# Altium footprint library NNLightSwitcher.PcbLib: 50 footprints (part 1 of 4)
Each footprint in its own frame and in the unit in brackets; x right, y up, seen from the top. Pads: shape width x height; smd on the part's side, far side on the other; paste and mask are expansions set on the pad; w line width, h text height; cw(c..) or ccw(c..) is an arc to the next point about the centre after c.
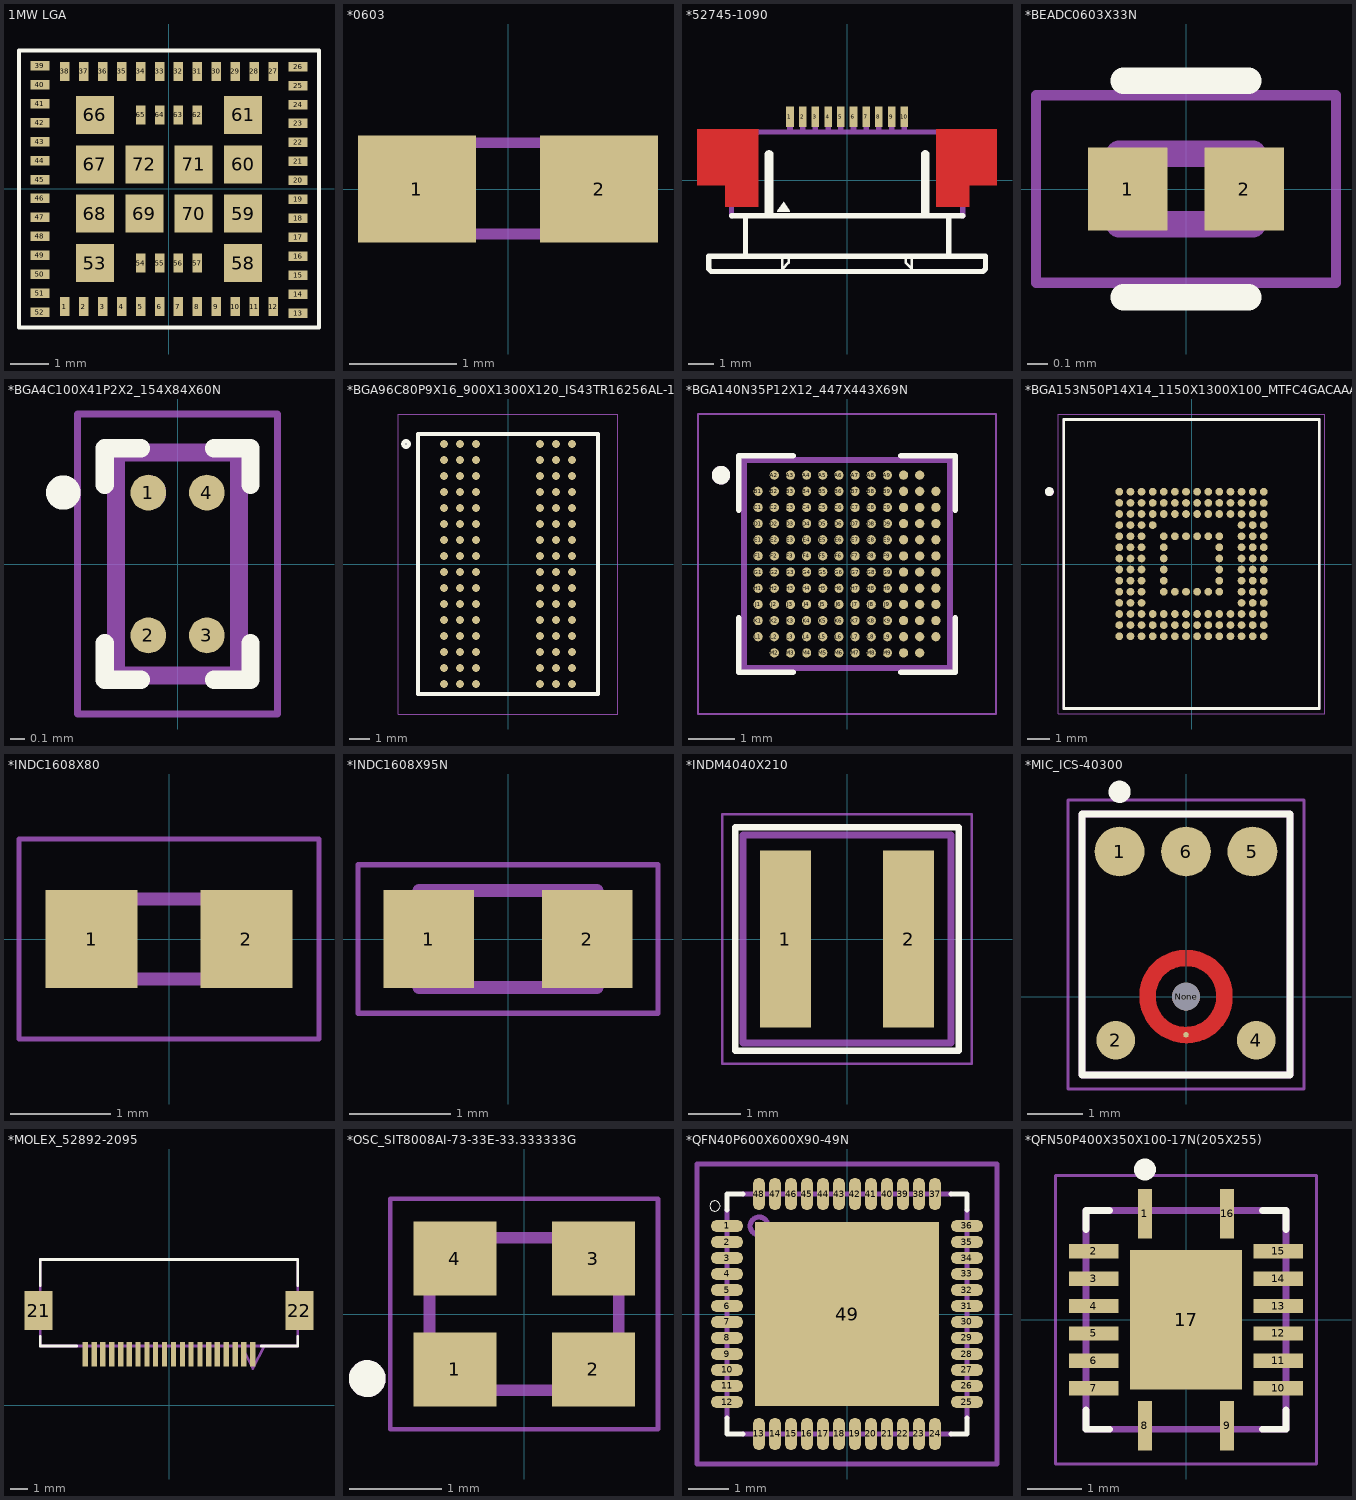
[diagram p0: the footprints below, top view; thin cyan lines are the x and y axes]

## 1MW LGA [mm]
height 1
pads (72):
  rect 0.25x0.5 smd: 1(-2.75,-3.1) 2(-2.25,-3.1) 3(-1.75,-3.1) 4(-1.25,-3.1) 5(-0.75,-3.1) 6(-0.25,-3.1) 7(0.25,-3.1) 8(0.75,-3.1) 9(1.25,-3.1) 10(1.75,-3.1) 11(2.25,-3.1) 12(2.75,-3.1) 27(2.75,3.1) 28(2.25,3.1) 29(1.75,3.1) 30(1.25,3.1) 31(0.75,3.1) 32(0.25,3.1) 33(-0.25,3.1) 34(-0.75,3.1) 35(-1.25,3.1) 36(-1.75,3.1) 37(-2.25,3.1) 38(-2.75,3.1) 54(-0.75,-1.95) 55(-0.25,-1.95) 56(0.25,-1.95) 57(0.75,-1.95) 62(0.75,1.95) 63(0.25,1.95) 64(-0.25,1.95) 65(-0.75,1.95)
  rect 0.5x0.25 smd: 13(3.4,-3.275) 14(3.4,-2.775) 15(3.4,-2.275) 16(3.4,-1.775) 17(3.4,-1.275) 18(3.4,-0.775) 19(3.4,-0.275) 20(3.4,0.225) 21(3.4,0.725) 22(3.4,1.225) 23(3.4,1.725) 24(3.4,2.225) 25(3.4,2.725) 26(3.4,3.225) 39(-3.4,3.25) 40(-3.4,2.75) 41(-3.4,2.25) 42(-3.4,1.75) 43(-3.4,1.25) 44(-3.4,0.75) 45(-3.4,0.25) 46(-3.4,-0.25) 47(-3.4,-0.75) 48(-3.4,-1.25) 49(-3.4,-1.75) 50(-3.4,-2.25) 51(-3.4,-2.75) 52(-3.4,-3.25)
  rect 1x1 smd: 53(-1.95,-1.95) 58(1.95,-1.95) 59(1.95,-0.65) 60(1.95,0.65) 61(1.95,1.95) 66(-1.95,1.95) 67(-1.95,0.65) 68(-1.95,-0.65) 69(-0.65,-0.65) 70(0.65,-0.65) 71(0.65,0.65) 72(-0.65,0.65)
Top Overlay:
  lines w0.1: -3.95,-3.65 -3.95,3.65 3.95,3.65 3.95,-3.65 -3.95,-3.65
3D body: height 1, standoff 0, extent -3.85,-3.575 3.85,3.575
3D body: height 0.25, standoff 0, extent -3.95,-3.65 3.95,3.65

## *0603 [mm]
pads (2):
  rect 1.1x1 smd: 1(-0.85,0) 2(0.85,0)
Mechanical 4:
  region: 0.331,0.48 0.83,0.48 0.83,-0.471 0.331,-0.471
  region: -0.84,0.48 -0.338,0.48 -0.338,-0.471 -0.84,-0.471
  region: 0.331,0.48 0.83,0.48 0.83,-0.471 0.331,-0.471
  region: -0.84,0.48 -0.338,0.48 -0.338,-0.471 -0.84,-0.471
  lines w0.102: -0.356,-0.419 0.356,-0.419 -0.356,-0.419 ; -0.356,0.432 0.356,0.432 -0.356,0.432
3D body "44211.stp": height 0.9, standoff 0.1, extent -0.8,-0.4 0.8,0.4

## *52745-1090 [mm]
pads (10):
  rect 0.3x0.8 smd: 1(-2.25,2.5) 2(-1.75,2.5) 3(-1.25,2.5) 4(-0.75,2.5) 5(-0.25,2.5) 6(0.25,2.5) 7(0.75,2.5) 8(1.25,2.5) 9(1.75,2.5) 10(2.25,2.5)
Top Layer:
  region: -5.91,2 -3.5,2 -3.5,-0.2 -5.91,-0.2
  region: -4.802,-0.2 -3.5,-0.2 -3.5,-1.05 -4.802,-1.05
  region: 3.506,-0.2 4.8,-0.2 4.8,-1.052 3.506,-1.052
  region: 3.503,2 5.9,2 5.9,-0.2 3.503,-0.2
Top Overlay:
  region: -2.75,-1.25 -2.75,-1.2 -2.5,-0.85 -2.25,-1.2 -2.25,-1.25
  lines w0.102: -2.55,-3.1 -2.55,-3.5 -2.3,-3.25 -2.3,-3.1 ; 2.3,-3.1 2.3,-3.25 2.55,-3.5 2.55,-3.1
  lines w0.203: -4.55,-1.4 4.55,-1.4 ; -4,-2.9 -4,-1.5 ; -3.15,-1.25 -3.15,1 cw(c-3.075,1) -3,1 -3,-1.25 ; 3,-1.25 3,1 cw(c3.075,1) 3.15,1 3.15,-1.25 ; 4,-2.9 4,-1.5 ; -5.45,-3.5 -5.45,-3 5.45,-3 5.45,-3.5 5.35,-3.6 -5.35,-3.6 -5.45,-3.5
Top Paste:
  region: 5.7,-0.05 3.705,-0.05 3.705,1.85 5.7,1.85
  region: -5.701,1.85 -3.7,1.85 -3.7,-0.05 -5.701,-0.05
Top Solder:
  region: 5.9,-0.2 4.754,-0.2 4.754,2 5.9,2
  region: 4.8,-1.051 3.505,-1.051 3.505,2 4.8,2
  region: -5.908,2 -4.75,2 -4.75,-0.2 -5.908,-0.2
  region: -4.803,2 -3.5,2 -3.5,-1.051 -4.803,-1.051
Mechanical 4:
  region: -2.352,2.7 -2.15,2.7 -2.15,2.002 -2.352,2.002
  region: -1.85,2.7 -1.65,2.7 -1.65,2 -1.85,2
  region: -1.351,2.7 -1.15,2.7 -1.15,2.002 -1.351,2.002
  region: -0.851,2.7 -0.65,2.7 -0.65,2.002 -0.851,2.002
  region: -0.35,2.7 -0.15,2.7 -0.15,2.002 -0.35,2.002
  region: 0.15,2.7 0.35,2.7 0.35,2 0.15,2
  region: 0.65,2.7 0.85,2.7 0.85,2.001 0.65,2.001
  region: 1.152,2.7 1.35,2.7 1.35,2.004 1.152,2.004
  region: 1.653,2.7 1.85,2.7 1.85,2.004 1.653,2.004
  region: 2.154,2.7 2.35,2.7 2.35,2.003 2.154,2.003
  region: -2.352,2.7 -2.15,2.7 -2.15,2.002 -2.352,2.002
  region: -1.85,2.7 -1.65,2.7 -1.65,2 -1.85,2
  region: -1.351,2.7 -1.15,2.7 -1.15,2.002 -1.351,2.002
  region: -0.851,2.7 -0.65,2.7 -0.65,2.002 -0.851,2.002
  region: -0.35,2.7 -0.15,2.7 -0.15,2.002 -0.35,2.002
  region: 0.15,2.7 0.35,2.7 0.35,2 0.15,2
  region: 0.65,2.7 0.85,2.7 0.85,2.001 0.65,2.001
  region: 1.152,2.7 1.35,2.7 1.35,2.004 1.152,2.004
  region: 1.653,2.7 1.85,2.7 1.85,2.004 1.653,2.004
  region: 2.154,2.7 2.35,2.7 2.35,2.003 2.154,2.003
  lines w0.102: -5.45,0.7 -5.45,0.9 ; -5.45,0.7 -4.7,0.7 ; -5.45,0.7 -5.45,0.9 ; -5.45,0.7 -4.7,0.7 ; -5.45,0.9 -4.9,0.9 ; -5.45,0.9 -4.9,0.9 ; -5.45,1.45 -5.45,1.65 ; -5.45,1.45 -4.85,1.45 ; -5.45,1.45 -5.45,1.65 ; -5.45,1.45 -4.85,1.45 ; -5.45,1.65 -4.85,1.65 ; -5.45,1.65 -4.85,1.65 ; -4.9,0.9 -4.85,0.95 ; -4.9,0.9 -4.85,0.95 ; -4.85,0.95 -4.85,1.45 ; -4.85,0.95 -4.85,1.45 ; -4.85,1.65 -4.85,1.95 ; -4.85,1.65 -4.85,1.95 ; -4.85,1.95 -4.7,1.95 -4.85,1.95 ; -4.7,0.7 -4.7,1.9 -4.7,0.7 ; 4.7,0.7 5.45,0.7 ; 4.7,0.7 4.7,1.9 4.7,0.7 ; 4.7,0.7 5.45,0.7 ; 4.85,0.95 4.85,1.45 ; 4.85,0.95 4.9,0.9 ; 4.85,0.95 4.85,1.45 ; 4.85,0.95 4.9,0.9 ; 4.85,1.45 5.45,1.45 ; 4.85,1.45 5.45,1.45 ; 4.85,1.65 4.85,1.95 ; 4.85,1.65 5.45,1.65 ; 4.85,1.65 4.85,1.95 ; 4.85,1.65 5.45,1.65 ; 4.85,1.95 4.7,1.95 4.85,1.95 ; 4.9,0.9 5.45,0.9 ; 4.9,0.9 5.45,0.9 ; 5.45,0.7 5.45,0.9 ; 5.45,0.7 5.45,0.9 ; 5.45,1.45 5.45,1.65 ; 5.45,1.45 5.45,1.65
  lines w0.203: -4.55,1.9 4.55,1.9 ; -4.55,1.9 -4.55,-1.4 -4.55,1.9 ; -4.55,1.9 4.55,1.9 ; 4.55,1.9 4.55,-1.4 4.55,1.9

## *BEADC0603X33N [mm]
pads (2):
  rect 0.38x0.4 smd: 1(-0.28,0) 2(0.28,0)
Top Overlay:
  lines w0.127: -0.3,-0.52 0.3,-0.52 ; -0.3,0.52 0.3,0.52
Mechanical 4:
  lines w0.127: -0.32,-0.17 0.32,-0.17 ; -0.32,-0.17 -0.32,0.17 ; -0.32,-0.17 0.32,-0.17 ; -0.32,-0.17 -0.32,0.17 ; -0.32,0.17 0.32,0.17 ; -0.32,0.17 0.32,0.17 ; 0.32,-0.17 0.32,0.17 ; 0.32,-0.17 0.32,0.17
Mechanical 16:
  lines w0.05: -0.72,-0.45 -0.72,0.45 0.72,0.45 0.72,-0.45 -0.72,-0.45

## *BGA4C100X41P2X2_154X84X60N [mm]
pads (4):
  round 0.25 smd: 1(-0.205,0.5) 2(-0.205,-0.5) 3(0.205,-0.5) 4(0.205,0.5)
Top Overlay:
  circle w0.2: c-0.8,0.5 r0.02
  lines w0.127: -0.51,-0.555 -0.51,-0.81 -0.255,-0.81 ; -0.51,0.555 -0.51,0.81 -0.255,0.81 ; 0.255,-0.81 0.51,-0.81 0.51,-0.555 ; 0.255,0.81 0.51,0.81 0.51,0.555
Mechanical 4:
  circle w0.2: c-0.2,0.5 r0.02
  circle w0.2: c-0.2,0.5 r0.02
  lines w0.127: -0.43,-0.78 0.43,-0.78 ; -0.43,-0.78 -0.43,0.78 ; -0.43,-0.78 0.43,-0.78 ; -0.43,-0.78 -0.43,0.78 ; -0.43,0.78 0.43,0.78 ; -0.43,0.78 0.43,0.78 ; 0.43,-0.78 0.43,0.78 ; 0.43,-0.78 0.43,0.78
Mechanical 16:
  lines w0.05: -0.7,-1.05 0.7,-1.05 0.7,1.05 -0.7,1.05 -0.7,-1.05
3D body: height 0.35, standoff 0, extent -0.45,-0.8 0.45,0.8

## *BGA96C80P9X16_900X1300X120_IS43TR16256AL-125KBL(Primary) [mm]
pads (96):
  round 0.4 smd: A1(-3.2,6) A2(-2.4,6) A3(-1.6,6) A7(1.6,6) A8(2.4,6) A9(3.2,6) B1(-3.2,5.2) B2(-2.4,5.2) B3(-1.6,5.2) B7(1.6,5.2) B8(2.4,5.2) B9(3.2,5.2) C1(-3.2,4.4) C2(-2.4,4.4) C3(-1.6,4.4) C7(1.6,4.4) C8(2.4,4.4) C9(3.2,4.4) D1(-3.2,3.6) D2(-2.4,3.6) D3(-1.6,3.6) D7(1.6,3.6) D8(2.4,3.6) D9(3.2,3.6) E1(-3.2,2.8) E2(-2.4,2.8) E3(-1.6,2.8) E7(1.6,2.8) E8(2.4,2.8) E9(3.2,2.8) F1(-3.2,2) F2(-2.4,2) F3(-1.6,2) F7(1.6,2) F8(2.4,2) F9(3.2,2) G1(-3.2,1.2) G2(-2.4,1.2) G3(-1.6,1.2) G7(1.6,1.2) G8(2.4,1.2) G9(3.2,1.2) H1(-3.2,0.4) H2(-2.4,0.4) H3(-1.6,0.4) H7(1.6,0.4) H8(2.4,0.4) H9(3.2,0.4) J1(-3.2,-0.4) J2(-2.4,-0.4) J3(-1.6,-0.4) J7(1.6,-0.4) J8(2.4,-0.4) J9(3.2,-0.4) K1(-3.2,-1.2) K2(-2.4,-1.2) K3(-1.6,-1.2) K7(1.6,-1.2) K8(2.4,-1.2) K9(3.2,-1.2) L1(-3.2,-2) L2(-2.4,-2) L3(-1.6,-2) L7(1.6,-2) L8(2.4,-2) L9(3.2,-2) M1(-3.2,-2.8) M2(-2.4,-2.8) M3(-1.6,-2.8) M7(1.6,-2.8) M8(2.4,-2.8) M9(3.2,-2.8) N1(-3.2,-3.6) N2(-2.4,-3.6) N3(-1.6,-3.6) N7(1.6,-3.6) N8(2.4,-3.6) N9(3.2,-3.6) P1(-3.2,-4.4) P2(-2.4,-4.4) P3(-1.6,-4.4) P7(1.6,-4.4) P8(2.4,-4.4) P9(3.2,-4.4) R1(-3.2,-5.2) R2(-2.4,-5.2) R3(-1.6,-5.2) R7(1.6,-5.2) R8(2.4,-5.2) R9(3.2,-5.2) T1(-3.2,-6) T2(-2.4,-6) T3(-1.6,-6) T7(1.6,-6) T8(2.4,-6) T9(3.2,-6)
Top Overlay:
  circle w0.2: c-5.1,6 r0.141
  lines w0.203: -4.5,-6.5 -4.5,6.5 4.5,6.5 4.5,-6.5 -4.5,-6.5
Top Solder:
  circle w0: c-3.2,6 r0.2
  circle w0: c-2.4,6 r0.2
  circle w0: c-1.6,6 r0.2
  circle w0: c1.6,6 r0.2
  circle w0: c2.4,6 r0.2
  circle w0: c3.2,6 r0.2
  circle w0: c-3.2,5.2 r0.2
  circle w0: c-2.4,5.2 r0.2
  circle w0: c-1.6,5.2 r0.2
  circle w0: c1.6,5.2 r0.2
  circle w0: c2.4,5.2 r0.2
  circle w0: c3.2,5.2 r0.2
  circle w0: c-3.2,4.4 r0.2
  circle w0: c-2.4,4.4 r0.2
  circle w0: c-1.6,4.4 r0.2
  circle w0: c1.6,4.4 r0.2
  circle w0: c2.4,4.4 r0.2
  circle w0: c3.2,4.4 r0.2
  circle w0: c-3.2,3.6 r0.2
  circle w0: c-2.4,3.6 r0.2
  circle w0: c-1.6,3.6 r0.2
  circle w0: c1.6,3.6 r0.2
  circle w0: c2.4,3.6 r0.2
  circle w0: c3.2,3.6 r0.2
  circle w0: c-3.2,2.8 r0.2
  circle w0: c-2.4,2.8 r0.2
  circle w0: c-1.6,2.8 r0.2
  circle w0: c1.6,2.8 r0.2
  circle w0: c2.4,2.8 r0.2
  circle w0: c3.2,2.8 r0.2
  circle w0: c-3.2,2 r0.2
  circle w0: c-2.4,2 r0.2
  circle w0: c-1.6,2 r0.2
  circle w0: c1.6,2 r0.2
  circle w0: c2.4,2 r0.2
  circle w0: c3.2,2 r0.2
  circle w0: c-3.2,1.2 r0.2
  circle w0: c-2.4,1.2 r0.2
  circle w0: c-1.6,1.2 r0.2
  circle w0: c1.6,1.2 r0.2
  circle w0: c2.4,1.2 r0.2
  circle w0: c3.2,1.2 r0.2
  circle w0: c-3.2,0.4 r0.2
  circle w0: c-2.4,0.4 r0.2
  circle w0: c-1.6,0.4 r0.2
  circle w0: c1.6,0.4 r0.2
  circle w0: c2.4,0.4 r0.2
  circle w0: c3.2,0.4 r0.2
  circle w0: c-3.2,-0.4 r0.2
  circle w0: c-2.4,-0.4 r0.2
  circle w0: c-1.6,-0.4 r0.2
  circle w0: c1.6,-0.4 r0.2
  circle w0: c2.4,-0.4 r0.2
  circle w0: c3.2,-0.4 r0.2
  circle w0: c-3.2,-1.2 r0.2
  circle w0: c-2.4,-1.2 r0.2
  circle w0: c-1.6,-1.2 r0.2
  circle w0: c1.6,-1.2 r0.2
  circle w0: c2.4,-1.2 r0.2
  circle w0: c3.2,-1.2 r0.2
  circle w0: c-3.2,-2 r0.2
  circle w0: c-2.4,-2 r0.2
  circle w0: c-1.6,-2 r0.2
  circle w0: c1.6,-2 r0.2
  circle w0: c2.4,-2 r0.2
  circle w0: c3.2,-2 r0.2
  circle w0: c-3.2,-2.8 r0.2
  circle w0: c-2.4,-2.8 r0.2
  circle w0: c-1.6,-2.8 r0.2
  circle w0: c1.6,-2.8 r0.2
  circle w0: c2.4,-2.8 r0.2
  circle w0: c3.2,-2.8 r0.2
  circle w0: c-3.2,-3.6 r0.2
  circle w0: c-2.4,-3.6 r0.2
  circle w0: c-1.6,-3.6 r0.2
  circle w0: c1.6,-3.6 r0.2
  circle w0: c2.4,-3.6 r0.2
  circle w0: c3.2,-3.6 r0.2
  circle w0: c-3.2,-4.4 r0.2
  circle w0: c-2.4,-4.4 r0.2
  circle w0: c-1.6,-4.4 r0.2
  circle w0: c1.6,-4.4 r0.2
  circle w0: c2.4,-4.4 r0.2
  circle w0: c3.2,-4.4 r0.2
  circle w0: c-3.2,-5.2 r0.2
  circle w0: c-2.4,-5.2 r0.2
  circle w0: c-1.6,-5.2 r0.2
  circle w0: c1.6,-5.2 r0.2
  circle w0: c2.4,-5.2 r0.2
  circle w0: c3.2,-5.2 r0.2
  circle w0: c-3.2,-6 r0.2
  circle w0: c-2.4,-6 r0.2
  circle w0: c-1.6,-6 r0.2
  circle w0: c1.6,-6 r0.2
  circle w0: c2.4,-6 r0.2
  circle w0: c3.2,-6 r0.2
Mechanical 16:
  lines w0.05: -5.5,-7.5 -5.5,7.5 5.5,7.5 5.5,-7.5 -5.5,-7.5
3D body: height 0.7, standoff 0, extent -4.475,-6.525 4.475,6.475

## *BGA140N35P12X12_447X443X69N [mm]
pads (140):
  round 0.2 smd: A2(-1.575,1.925) A3(-1.225,1.925) A4(-0.875,1.925) A5(-0.525,1.925) A6(-0.175,1.925) A7(0.175,1.925) A8(0.525,1.925) A9(0.875,1.925) A10(1.225,1.925) A11(1.575,1.925) B1(-1.925,1.575) B2(-1.575,1.575) B3(-1.225,1.575) B4(-0.875,1.575) B5(-0.525,1.575) B6(-0.175,1.575) B7(0.175,1.575) B8(0.525,1.575) B9(0.875,1.575) B10(1.225,1.575) B11(1.575,1.575) B12(1.925,1.575) C1(-1.925,1.225) C2(-1.575,1.225) C3(-1.225,1.225) C4(-0.875,1.225) C5(-0.525,1.225) C6(-0.175,1.225) C7(0.175,1.225) C8(0.525,1.225) C9(0.875,1.225) C10(1.225,1.225) C11(1.575,1.225) C12(1.925,1.225) D1(-1.925,0.875) D2(-1.575,0.875) D3(-1.225,0.875) D4(-0.875,0.875) D5(-0.525,0.875) D6(-0.175,0.875) D7(0.175,0.875) D8(0.525,0.875) D9(0.875,0.875) D10(1.225,0.875) D11(1.575,0.875) D12(1.925,0.875) E1(-1.925,0.525) E2(-1.575,0.525) E3(-1.225,0.525) E4(-0.875,0.525) E5(-0.525,0.525) E6(-0.175,0.525) E7(0.175,0.525) E8(0.525,0.525) E9(0.875,0.525) E10(1.225,0.525) E11(1.575,0.525) E12(1.925,0.525) F1(-1.925,0.175) F2(-1.575,0.175) F3(-1.225,0.175) F4(-0.875,0.175) F5(-0.525,0.175) F6(-0.175,0.175) F7(0.175,0.175) F8(0.525,0.175) F9(0.875,0.175) F10(1.225,0.175) F11(1.575,0.175) F12(1.925,0.175) G1(-1.925,-0.175) G2(-1.575,-0.175) G3(-1.225,-0.175) G4(-0.875,-0.175) G5(-0.525,-0.175) G6(-0.175,-0.175) G7(0.175,-0.175) G8(0.525,-0.175) G9(0.875,-0.175) G10(1.225,-0.175) G11(1.575,-0.175) G12(1.925,-0.175) H1(-1.925,-0.525) H2(-1.575,-0.525) H3(-1.225,-0.525) H4(-0.875,-0.525) H5(-0.525,-0.525) H6(-0.175,-0.525) H7(0.175,-0.525) H8(0.525,-0.525) H9(0.875,-0.525) H10(1.225,-0.525) H11(1.575,-0.525) H12(1.925,-0.525) J1(-1.925,-0.875) J2(-1.575,-0.875) J3(-1.225,-0.875) J4(-0.875,-0.875) J5(-0.525,-0.875) J6(-0.175,-0.875) J7(0.175,-0.875) J8(0.525,-0.875) J9(0.875,-0.875) J10(1.225,-0.875) J11(1.575,-0.875) J12(1.925,-0.875) K1(-1.925,-1.225) K2(-1.575,-1.225) K3(-1.225,-1.225) K4(-0.875,-1.225) K5(-0.525,-1.225) K6(-0.175,-1.225) K7(0.175,-1.225) K8(0.525,-1.225) K9(0.875,-1.225) K10(1.225,-1.225) K11(1.575,-1.225) K12(1.925,-1.225) L1(-1.925,-1.575) L2(-1.575,-1.575) L3(-1.225,-1.575) L4(-0.875,-1.575) L5(-0.525,-1.575) L6(-0.175,-1.575) L7(0.175,-1.575) L8(0.525,-1.575) L9(0.875,-1.575) L10(1.225,-1.575) L11(1.575,-1.575) L12(1.925,-1.575) M2(-1.575,-1.925) M3(-1.225,-1.925) M4(-0.875,-1.925) M5(-0.525,-1.925) M6(-0.175,-1.925) M7(0.175,-1.925) M8(0.525,-1.925) M9(0.875,-1.925) M10(1.225,-1.925) M11(1.575,-1.925)
Top Overlay:
  circle w0.2: c-2.729,1.925 r0.1
  lines w0.127: -2.345,-1.172 -2.345,-2.345 -1.172,-2.345 ; -2.345,1.172 -2.345,2.345 -1.172,2.345 ; 1.172,-2.345 2.345,-2.345 2.345,-1.172 ; 1.172,2.345 2.345,2.345 2.345,1.172
Mechanical 4:
  circle w0.2: c-2.729,1.925 r0.1
  circle w0.2: c-2.729,1.925 r0.1
  lines w0.127: -2.23,-2.25 -2.23,2.25 ; -2.23,-2.25 2.23,-2.25 ; -2.23,-2.25 -2.23,2.25 ; -2.23,-2.25 2.23,-2.25 ; -2.23,2.25 2.23,2.25 ; -2.23,2.25 2.23,2.25 ; 2.23,-2.25 2.23,2.25 ; 2.23,-2.25 2.23,2.25
Mechanical 16:
  lines w0.05: -3.23,-3.25 -3.23,3.25 3.23,3.25 3.23,-3.25 -3.23,-3.25

## *BGA153N50P14X14_1150X1300X100_MTFC4GACAAAM-1M_WT(Primary) [mm]
pads (153):
  round 0.35 smd: A1(-3.25,3.25) A2(-2.75,3.25) A3(-2.25,3.25) A4(-1.75,3.25) A5(-1.25,3.25) A6(-0.75,3.25) A7(-0.25,3.25) A8(0.25,3.25) A9(0.75,3.25) A10(1.25,3.25) A11(1.75,3.25) A12(2.25,3.25) A13(2.75,3.25) A14(3.25,3.25) B1(-3.25,2.75) B2(-2.75,2.75) B3(-2.25,2.75) B4(-1.75,2.75) B5(-1.25,2.75) B6(-0.75,2.75) B7(-0.25,2.75) B8(0.25,2.75) B9(0.75,2.75) B10(1.25,2.75) B11(1.75,2.75) B12(2.25,2.75) B13(2.75,2.75) B14(3.25,2.75) C1(-3.25,2.25) C2(-2.75,2.25) C3(-2.25,2.25) C4(-1.75,2.25) C5(-1.25,2.25) C6(-0.75,2.25) C7(-0.25,2.25) C8(0.25,2.25) C9(0.75,2.25) C10(1.25,2.25) C11(1.75,2.25) C12(2.25,2.25) C13(2.75,2.25) C14(3.25,2.25) D1(-3.25,1.75) D2(-2.75,1.75) D3(-2.25,1.75) D4(-1.75,1.75) D12(2.25,1.75) D13(2.75,1.75) D14(3.25,1.75) E1(-3.25,1.25) E2(-2.75,1.25) E3(-2.25,1.25) E5(-1.25,1.25) E6(-0.75,1.25) E7(-0.25,1.25) E8(0.25,1.25) E9(0.75,1.25) E10(1.25,1.25) E12(2.25,1.25) E13(2.75,1.25) E14(3.25,1.25) F1(-3.25,0.75) F2(-2.75,0.75) F3(-2.25,0.75) F5(-1.25,0.75) F10(1.25,0.75) F12(2.25,0.75) F13(2.75,0.75) F14(3.25,0.75) G1(-3.25,0.25) G2(-2.75,0.25) G3(-2.25,0.25) G5(-1.25,0.25) G10(1.25,0.25) G12(2.25,0.25) G13(2.75,0.25) G14(3.25,0.25) H1(-3.25,-0.25) H2(-2.75,-0.25) H3(-2.25,-0.25) H5(-1.25,-0.25) H10(1.25,-0.25) H12(2.25,-0.25) H13(2.75,-0.25) H14(3.25,-0.25) J1(-3.25,-0.75) J2(-2.75,-0.75) J3(-2.25,-0.75) J5(-1.25,-0.75) J10(1.25,-0.75) J12(2.25,-0.75) J13(2.75,-0.75) J14(3.25,-0.75) K1(-3.25,-1.25) K2(-2.75,-1.25) K3(-2.25,-1.25) K5(-1.25,-1.25) K6(-0.75,-1.25) K7(-0.25,-1.25) K8(0.25,-1.25) K9(0.75,-1.25) K10(1.25,-1.25) K12(2.25,-1.25) K13(2.75,-1.25) K14(3.25,-1.25) L1(-3.25,-1.75) L2(-2.75,-1.75) L3(-2.25,-1.75) L12(2.25,-1.75) L13(2.75,-1.75) L14(3.25,-1.75) M1(-3.25,-2.25) M2(-2.75,-2.25) M3(-2.25,-2.25) M4(-1.75,-2.25) M5(-1.25,-2.25) M6(-0.75,-2.25) M7(-0.25,-2.25) M8(0.25,-2.25) M9(0.75,-2.25) M10(1.25,-2.25) M11(1.75,-2.25) M12(2.25,-2.25) M13(2.75,-2.25) M14(3.25,-2.25) N1(-3.25,-2.75) N2(-2.75,-2.75) N3(-2.25,-2.75) N4(-1.75,-2.75) N5(-1.25,-2.75) N6(-0.75,-2.75) N7(-0.25,-2.75) N8(0.25,-2.75) N9(0.75,-2.75) N10(1.25,-2.75) N11(1.75,-2.75) N12(2.25,-2.75) N13(2.75,-2.75) N14(3.25,-2.75) P1(-3.25,-3.25) P2(-2.75,-3.25) P3(-2.25,-3.25) P4(-1.75,-3.25) P5(-1.25,-3.25) P6(-0.75,-3.25) P7(-0.25,-3.25) P8(0.25,-3.25) P9(0.75,-3.25) P10(1.25,-3.25) P11(1.75,-3.25) P12(2.25,-3.25) P13(2.75,-3.25) P14(3.25,-3.25)
Top Overlay:
  circle w0.2: c-6.4,3.26 r0.1
  lines w0.127: -5.75,-6.5 5.75,-6.5 5.75,6.5 -5.75,6.5 -5.75,-6.5
Mechanical 4:
  circle w0.2: c-6.39,3.25 r0.1
  circle w0.2: c-6.39,3.25 r0.1
  lines w0.127: -5.75,-6.5 5.75,-6.5 ; -5.75,-6.5 -5.75,6.5 ; -5.75,-6.5 5.75,-6.5 ; -5.75,-6.5 -5.75,6.5 ; -5.75,6.5 5.75,6.5 ; -5.75,6.5 5.75,6.5 ; 5.75,-6.5 5.75,6.5 ; 5.75,-6.5 5.75,6.5
Mechanical 16:
  lines w0.05: -6,-6.75 6,-6.75 6,6.75 -6,6.75 -6,-6.75
3D body: height 0.7, standoff 0, extent -5.75,-6.525 5.75,6.5

## *INDC1608X80 [mm]
pads (2):
  rect 0.92x0.98 smd: 1(-0.775,0) 2(0.775,0)
Mechanical 4:
  region: -0.801,0.4 -0.45,0.4 -0.45,-0.401 -0.801,-0.401
  region: 0.451,0.4 0.8,0.4 0.8,-0.401 0.451,-0.401
  region: -0.801,0.4 -0.45,0.4 -0.45,-0.401 -0.801,-0.401
  region: 0.451,0.4 0.8,0.4 0.8,-0.401 0.451,-0.401
  lines w0.127: -0.8,-0.4 0.8,-0.4 ; -0.8,-0.4 -0.8,0.4 ; -0.8,-0.4 0.8,-0.4 ; -0.8,-0.4 -0.8,0.4 ; -0.8,0.4 0.8,0.4 ; -0.8,0.4 0.8,0.4 ; 0.8,-0.4 0.8,0.4 ; 0.8,-0.4 0.8,0.4
Mechanical 16:
  lines w0.05: -1.5,-1 1.5,-1 1.5,1 -1.5,1 -1.5,-1

## *INDC1608X95N [mm]
pads (2):
  rect 0.9x0.97 smd: 1(-0.785,0) 2(0.785,0)
Mechanical 4:
  lines w0.127: -0.88,-0.48 0.88,-0.48 ; -0.88,-0.48 -0.88,0.48 ; -0.88,-0.48 0.88,-0.48 ; -0.88,-0.48 -0.88,0.48 ; -0.88,0.48 0.88,0.48 ; -0.88,0.48 0.88,0.48 ; 0.88,-0.48 0.88,0.48 ; 0.88,-0.48 0.88,0.48
Mechanical 16:
  lines w0.05: -1.485,-0.735 1.485,-0.735 1.485,0.735 -1.485,0.735 -1.485,-0.735

## *INDM4040X210 [mm]
pads (2):
  rect 0.98x3.4 smd: 1(-1.185,0) 2(1.185,0)
Top Overlay:
  lines w0.127: -2.15,-2.15 -2.15,2.15 2.15,2.15 2.15,-2.15 -2.15,-2.15
Mechanical 4:
  lines w0.127: -2,-2 -2,2 ; -2,-2 2,-2 ; -2,-2 -2,2 ; -2,-2 2,-2 ; -2,2 2,2 ; -2,2 2,2 ; 2,-2 2,2 ; 2,-2 2,2
Mechanical 16:
  lines w0.05: -2.4,-2.4 -2.4,2.4 2.4,2.4 2.4,-2.4 -2.4,-2.4

## *MIC_ICS-40300 [mm]
pads (7):
  round 0.9 smd: 1(-1.2,2.62) 5(1.2,2.62) 6(0,2.62)
  round 0.7 smd: 2(-1.27,-0.79) 4(1.27,-0.79)
  round 0.1 smd: 3(0,-0.69)
  round 0.5 hole 0.5 unplated: None(0,0)
Top Layer:
  region: 254 vertices and 0 holes, not listed, extent -0.84,-0.84 0.84,0.84
Top Overlay:
  circle w0.3: c-1.2,3.7 r0.05
  lines w0.127: -1.88,-1.42 1.88,-1.42 1.88,3.3 -1.88,3.3 -1.88,-1.42
Top Paste:
  drawing of 9 lines, arcs and shapes, not listed
Top Solder:
  circle w0.5: c0,0.007 r0.69
Mechanical 4:
  circle w0.3: c-1.2,2.6 r0.05
  circle w0.3: c-1.2,2.6 r0.05
  lines w0.127: -1.88,-1.42 1.88,-1.42 ; -1.88,-1.42 -1.88,3.3 ; -1.88,-1.42 1.88,-1.42 ; -1.88,-1.42 -1.88,3.3 ; -1.88,3.3 1.88,3.3 ; -1.88,3.3 1.88,3.3 ; 1.88,-1.42 1.88,3.3 ; 1.88,-1.42 1.88,3.3
Mechanical 16:
  lines w0.05: -2.13,-1.67 2.13,-1.67 2.13,3.55 -2.13,3.55 -2.13,-1.67
3D body: height 2, standoff 0, extent -1.6,-1.125 1.6,3.025
3D body: height 0.4, standoff 0, extent -1.875,-1.4 1.875,3.275

## *MOLEX_52892-2095 [mil]
pads (22):
  rect 12x55 smd: 1(187,114) 2(167,114) 3(148,114) 4(128,114) 5(108,114) 6(89,114) 7(69,114) 8(49,114) 9(30,114) 10(10,114) 11(-10,114) 12(-30,114) 13(-49,114) 14(-69,114) 15(-89,114) 16(-108,114) 17(-128,114) 18(-148,114) 19(-167,114) 20(-187,114)
  rect 63x87 smd: 21(-291,211) 22(291,211)
Top Overlay:
  lines w6: -287,154 -287,132 -206,132 ; -287,267 -287,325 287,325 287,267 ; 206,132 287,132 287,154
Mechanical 4:
  lines w6: -287,132 -287,325 ; -287,132 287,132 ; -287,132 -287,325 ; -287,132 287,132 ; -287,325 287,325 ; -287,325 287,325 ; 187,82 162,132 187,82 ; 187,82 212,132 187,82 ; 287,132 287,325 ; 287,132 287,325

## *OSC_SIT8008AI-73-33E-33.333333G [mm]
pads (4):
  rect 0.9x0.8 smd: 1(-0.75,-0.6) 2(0.75,-0.6) 3(0.75,0.6) 4(-0.75,0.6)
Top Overlay:
  circle w0.2: c-1.7,-0.7 r0.1
Mechanical 4:
  circle w0.2: c-1.7,-0.7 r0.1
  circle w0.2: c-1.7,-0.7 r0.1
  lines w0.127: -1.025,-0.825 -1.025,0.825 ; -1.025,-0.825 1.025,-0.825 ; -1.025,-0.825 -1.025,0.825 ; -1.025,-0.825 1.025,-0.825 ; -1.025,0.825 1.025,0.825 ; -1.025,0.825 1.025,0.825 ; 1.025,-0.825 1.025,0.825 ; 1.025,-0.825 1.025,0.825
Mechanical 16:
  lines w0.05: -1.45,-1.25 -1.45,1.25 1.45,1.25 1.45,-1.25 -1.45,-1.25
3D body: height 0.5, standoff 0, extent -1,-0.825 1.025,0.825

## *QFN40P600X600X90-49N [mm]
pads (49):
  oval 0.8x0.3 smd: 1(-3,2.2) 2(-3,1.8) 3(-3,1.4) 4(-3,1) 5(-3,0.6) 6(-3,0.2) 7(-3,-0.2) 8(-3,-0.6) 9(-3,-1) 10(-3,-1.4) 11(-3,-1.8) 12(-3,-2.2) 25(3,-2.2) 26(3,-1.8) 27(3,-1.4) 28(3,-1) 29(3,-0.6) 30(3,-0.2) 31(3,0.2) 32(3,0.6) 33(3,1) 34(3,1.4) 35(3,1.8) 36(3,2.2)
  oval 0.3x0.8 smd: 13(-2.2,-3) 14(-1.8,-3) 15(-1.4,-3) 16(-1,-3) 17(-0.6,-3) 18(-0.2,-3) 19(0.2,-3) 20(0.6,-3) 21(1,-3) 22(1.4,-3) 23(1.8,-3) 24(2.2,-3) 37(2.2,3) 38(1.8,3) 39(1.4,3) 40(1,3) 41(0.6,3) 42(0.2,3) 43(-0.2,3) 44(-0.6,3) 45(-1,3) 46(-1.4,3) 47(-1.8,3) 48(-2.2,3)
  rect 4.6x4.6 smd: 49(0,0)
Top Overlay:
  circle w0: c-3.3,2.7 r0.127
  lines w0.127: -3,-2.6 -3,-3 -2.6,-3 ; -3,2.6 -3,3 -2.6,3 ; 2.6,-3 3,-3 3,-2.6 ; 2.6,3 3,3 3,2.6
Top Paste:
  region: -1.453,1.45 1.45,1.45 1.45,-1.453 -1.453,-1.453
Top Solder:
  drawing of 48 lines, arcs and shapes, not listed
Mechanical 4:
  drawing of 106 lines, arcs and shapes, not listed
Mechanical 16:
  lines w0.127: -3.75,-3.75 3.75,-3.75 3.75,3.75 -3.75,3.75 -3.75,-3.75

## *QFN50P400X350X100-17N(205X255) [mm]
pads (17):
  rect 0.26x0.9 smd: 1(-0.75,1.935) 8(-0.75,-1.935) 9(0.75,-1.935) 16(0.75,1.935)
  rect 0.9x0.26 smd: 2(-1.685,1.25) 3(-1.685,0.75) 4(-1.685,0.25) 5(-1.685,-0.25) 6(-1.685,-0.75) 7(-1.685,-1.25) 10(1.685,-1.25) 11(1.685,-0.75) 12(1.685,-0.25) 13(1.685,0.25) 14(1.685,0.75) 15(1.685,1.25)
  rect 2.05x2.55 smd: 17(0,0)
Top Overlay:
  circle w0.2: c-0.75,2.746 r0.1
  lines w0.127: -1.83,-1.65 -1.83,-2 -1.4,-2 ; -1.83,1.65 -1.83,2 -1.4,2 ; 1.4,-2 1.83,-2 1.83,-1.65 ; 1.4,2 1.83,2 1.83,1.65
Top Paste:
  region: -0.709,0.806 0.65,0.806 0.65,-0.879 -0.709,-0.879
Mechanical 4:
  lines w0.127: -1.83,-2 -1.83,2 ; -1.83,-2 1.83,-2 ; -1.83,-2 -1.83,2 ; -1.83,-2 1.83,-2 ; -1.83,2 1.83,2 ; -1.83,2 1.83,2 ; 1.83,-2 1.83,2 ; 1.83,-2 1.83,2
Mechanical 16:
  lines w0.05: -2.385,-2.635 -2.385,2.635 2.385,2.635 2.385,-2.635 -2.385,-2.635
3D body: height 0.7, standoff 0, extent -1.825,-2.05 1.825,2